# Altium footprint library NEC_iEVENTSIM_OpticalInterrupter.PcbLib: 1 footprints
Each footprint in its own frame and in the unit in brackets; x right, y up, seen from the top. Pads: shape width x height; smd on the part's side, far side on the other; paste and mask are expansions set on the pad; w line width, h text height; cw(c..) or ccw(c..) is an arc to the next point about the centre after c.
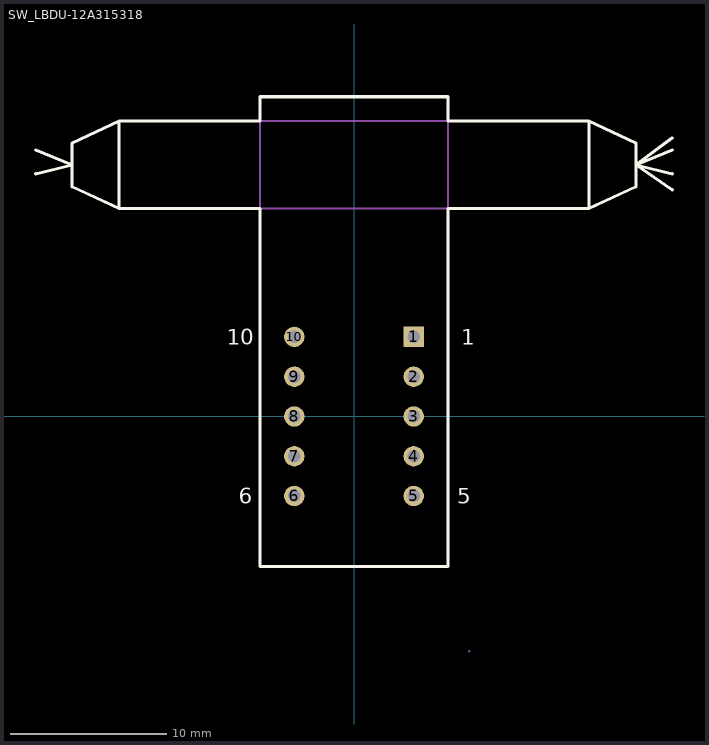
[diagram p0: the footprint, top view; thin cyan lines are the x and y axes]

## SW_LBDU-12A315318 [mm]
height 8
pads (10):
  rect 1.3x1.3 hole 0.8 mask+0.076: 1(3.81,5.08)
  round 1.3 hole 0.8 mask+0.076: 2(3.81,2.54) 3(3.81,0) 4(3.81,-2.54) 5(3.81,-5.08) 6(-3.81,-5.08) 7(-3.81,-2.54) 8(-3.81,0) 9(-3.81,2.54) 10(-3.81,5.08)
Top Overlay:
  lines w0.203: -20.32,15.494 -18,16.07 -20.32,17.018 ; 20.32,14.478 18,16.07 ; 20.32,15.494 18,16.07 ; 20.32,17.018 18,16.07 ; -15,13.27 -15,18.87 ; -15,13.27 -6,13.27 -6,-9.58 6,-9.58 6,13.27 15,13.27 ; -15,13.27 -18,14.67 -18,17.47 -15,18.87 ; -15,18.87 -6,18.87 -6,20.42 6,20.42 6,18.87 15,18.87 ; 15,13.27 15,18.87 ; 15,13.27 18,14.67 18,17.47 15,18.87 ; 18,16.07 20.32,17.78 18,16.07
  text "10" at -8.128,4.572 h1
  text "5" at 6.604,-5.588 h1
  text "6" at -7.366,-5.588 h1
  text "1" at 6.858,4.572 h1
Mechanical 1:
  text ".Designator" at 0,0 h1.52
Mechanical 15:
  lines w0.127: 7.352,-15 7.366,-14.986 ; -15,13.27 15,13.27 15,18.87 -15,18.87 -15,13.27 ; -6,-9.58 -6,20.42 6,20.42 6,-9.58 -6,-9.58
  text "10" at -4.318,4.572 h1.52
  text "6" at -4.064,-5.588 h1.52
  text "5" at 3.556,-5.588 h1.52
  text "1" at 3.556,4.572 h1.52
3D body: height 6.75, standoff 1.15, extent 6,13.273 15,18.867
3D body: height 6.75, standoff 1.15, extent -15,13.273 -6,18.867
3D body: height 8.5, standoff 0, extent -6,-9.58 6,20.42